# Altium schematic symbol library ad-s-gost.SchLib: 1 symbol
Pins are listed as number, name and electrical type; pins without a type are passive.

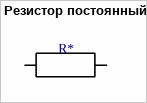
[diagram p0: symbol Резистор постоянный]

## Резистор постоянный
designator R*  (value not drawn)
ГОСТ 2.728-74
pins: 1, 2